# Altium schematic symbol library components.SchLib: 27 symbols
Pins are listed as number, name and electrical type; pins without a type are passive.

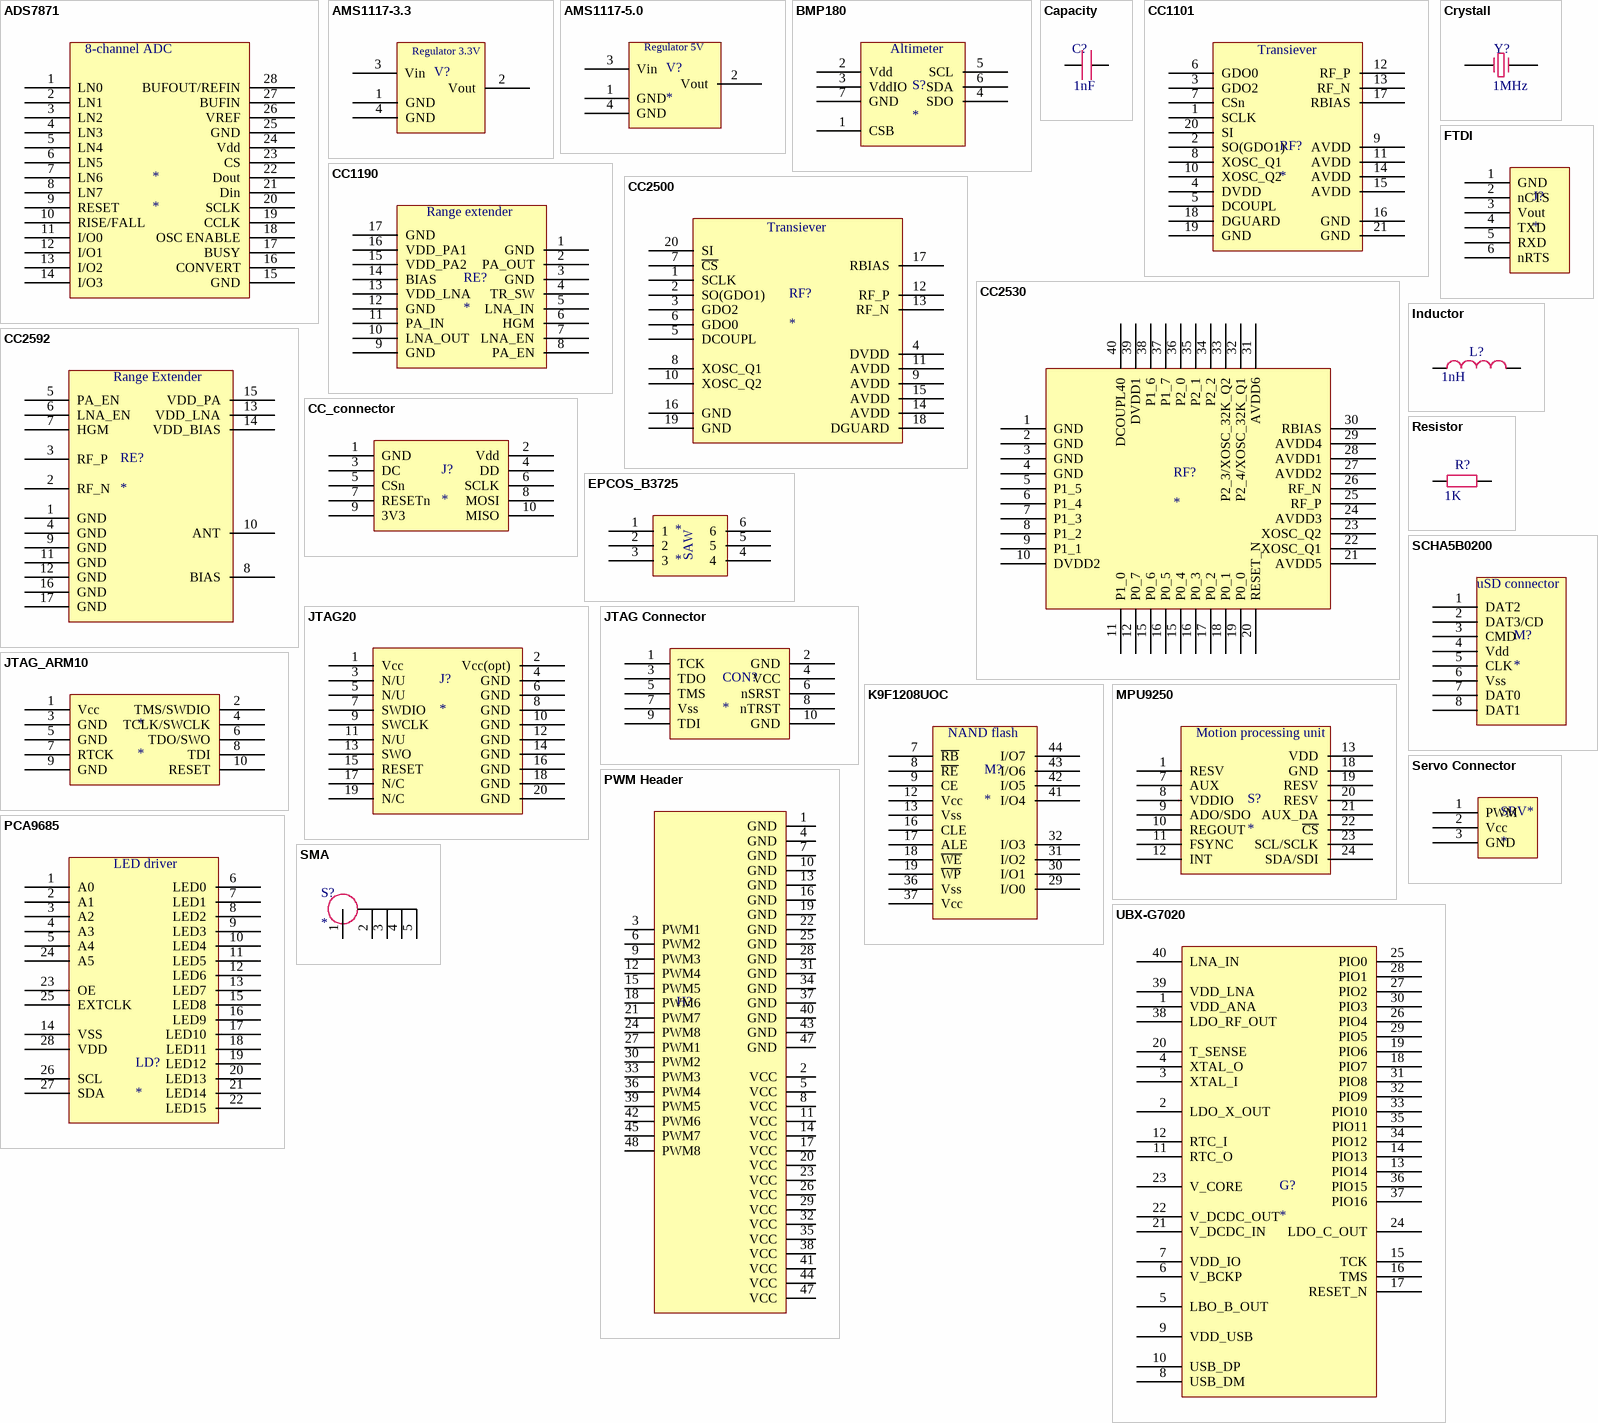
[diagram p0: symbols ADS7871 to UBX-G7020]

## ADS7871
designator *
pins: 1 LN0, 2 LN1, 3 LN2, 4 LN3, 5 LN4, 6 LN5, 7 LN6, 8 LN7, 9 RESET, 10 RISE/FALL, 11 I/O0, 12 I/O1, 13 I/O2, 14 I/O3, 15 GND, 16 CONVERT, 17 BUSY, 18 OSC ENABLE, 19 CCLK, 20 SCLK, 21 Din, 22 Dout, 23 CS, 24 Vdd, 25 GND, 26 VREF, 27 BUFIN, 28 BUFOUT/REFIN
text: 8-channel ADC

## AMS1117-3.3
designator V?  (value not drawn)
Linear Voltage Regulator 3.3V
footprint SOT-223 (SOT-223/SC-73; 4 Leads; Body 6.7 x 7.3 mm, inc. leads (LxW max))
pins: 1 GND, 2 Vout, 3 Vin, 4 GND
text: Regulator 3.3V

## AMS1117-5.0
designator V?
Linear Voltage Regulator 5V
footprint SOT-223 (SOT-223/SC-73; 4 Leads; Body 6.7 x 7.3 mm, inc. leads (LxW max))
pins: 1 GND, 2 Vout, 3 Vin, 4 GND
text: Regulator 5V

## BMP180
designator S?
Bosch Digital Pressure Sensor
footprint LGA7-1.5-3.8X3.6MM
pins: 1 CSB, 2 Vdd, 3 VddIO, 4 SDO, 5 SCL, 6 SDA, 7 GND
text: Altimeter

## Capacity
designator C?  value 1nF  (hidden comment: *)
footprint C0402
pins: 1, 2

## CC1101
designator RF?
900MHz transiever
footprint RGP20_2P4X2P4 (S-PQVFN-N20)
pins: 1 SCLK, 2 SO(GDO1), 3 GDO2, 4 DVDD, 5 DCOUPL, 6 GDO0, 7 CSn, 8 XOSC_Q1, 9 AVDD, 10 XOSC_Q2, 11 AVDD, 12 RF_P, 13 RF_N, 14 AVDD, 15 AVDD, 16 GND, 17 RBIAS, 18 DGUARD, 19 GND, 20 SI, 21 GND
text: Transiever

## CC1190
designator RE?
900MHZ range extender
footprint RGV16_2P16X2P16 (S-PQVFN-N16)
pins: 1 GND, 2 PA_OUT, 3 GND, 4 TR_SW, 5 LNA_IN, 6 HGM, 7 LNA_EN, 8 PA_EN, 9 GND, 10 LNA_OUT, 11 PA_IN, 12 GND, 13 VDD_LNA, 14 BIAS, 15 VDD_PA2, 16 VDD_PA1, 17 GND
text: Range extender

## CC2500
designator RF?
2.4GHz transiever
footprint RTK20_2P4X2P4 (S-PQVFN-N20)
pins: 1 SCLK, 2 SO(GDO1), 3 GDO2, 4 DVDD, 5 DCOUPL, 6 GDO0, 7 ~{CS}, 8 XOSC_Q1, 9 AVDD, 10 XOSC_Q2, 11 AVDD, 12 RF_P, 13 RF_N, 14 AVDD, 15 AVDD, 16 GND, 17 RBIAS, 18 DGUARD, 19 GND, 20 SI
text: Transiever

## CC2530
designator RF?
RF 2.5GHz module
footprint PQFN50P600X600X100_HS-41N (PQFN, 40-Leads, Body 6,00x6,00mm, Pitch 0,50mm, Thermal Pad 4,50x4,50mm, IPC Medium Density)
pins: 1 GND, 2 GND, 3 GND, 4 GND, 5 P1_5, 6 P1_4, 7 P1_3, 8 P1_2, 9 P1_1, 10 DVDD2, 11 P1_0, 12 P0_7, 15 P0_6, 15 P0_4, 16 P0_5, 16 P0_3, 17 P0_2, 18 P0_1, 19 P0_0, 20 RESET_N, 21 AVDD5, 22 XOSC_Q1, 23 XOSC_Q2, 24 AVDD3, 25 RF_P, 26 RF_N, 27 AVDD2, 28 AVDD1, 29 AVDD4, 30 RBIAS, 31 AVDD6, 32 P2_4/XOSC_32K_Q1, 33 P2_3/XOSC_32K_Q2, 34 P2_2, 35 P2_1, 36 P2_0, 37 P1_7, 38 P1_6, 39 DVDD1, 40 DCOUPL40

## CC2592
designator RE?
Range Extender 2.5GHz
footprint RGV16_2P16X2P16 (S-PQVFN-N16)
pins: 1 GND, 2 RF_N, 3 RF_P, 4 GND, 5 PA_EN, 6 LNA_EN, 7 HGM, 8 BIAS, 9 GND, 10 ANT, 11 GND, 12 GND, 13 VDD_LNA, 14 VDD_BIAS, 15 VDD_PA, 16 GND, 17 GND
text: Range Extender

## CC_connector
designator J?
CC Debugger TI connector
pins: 1 GND, 2 Vdd, 3 DC "Debug Clock", 4 DD "Debug Data", 5 CSn, 6 SCLK "Debug Data", 7 RESETn, 8 MOSI, 9 3V3, 10 MISO

## Crystall
designator Y?  Frequency: 1MHz  (hidden comment: *)
Epson TSX-3225 MHz Crystal
footprint OSC3225
pins: 1 OSC1, 3 OSC2

## EPCOS_B3725
designator *
Saw filter
footprint DCC6C
pins: 1, 2, 3, 4, 5, 6
text: SAW

## FTDI
designator J?
FTDI 6-pin connector
pins: 1 GND, 2 nCTS, 3 Vout, 4 TXD, 5 RXD, 6 nRTS

## Inductor
designator L?  value 1nH  (hidden comment: *)
footprint L0402 (Inductor 0402)
pins: 1, 2

## JTAG20
designator J?
SWD/JTAG 20 pin connector
footprint JTAG20
pins: 1 Vcc, 2 Vcc(opt), 3 N/U, 4 GND, 5 N/U, 6 GND, 7 SWDIO, 8 GND, 9 SWCLK, 10 GND, 11 N/U, 12 GND, 13 SWO, 14 GND, 15 RESET, 16 GND, 17 N/C, 18 GND, 19 N/C, 20 GND

## JTAG Connector
designator CON?
pins: 1 TCK, 2 GND, 3 TDO, 4 VCC, 5 TMS, 6 nSRST, 7 Vss, 8 nTRST, 9 TDI, 10 GND

## JTAG_ARM10
designator *
pins: 1 Vcc, 2 TMS/SWDIO, 3 GND, 4 TCLK/SWCLK, 5 GND, 6 TDO/SWO, 7 RTCK, 8 TDI, 9 GND, 10 RESET

## K9F1208UOC
designator M?
64x8 NAND flash; Volume: 64MB
footprint TSSOP50P2000X120-48N (TSSOP, 48-Leads, Body 12,40x18,40mm, Pitch 0,50mm, IPC Medium Density)
pins: 1 NC hidden, 2 NC hidden, 3 NC hidden, 4 NC hidden, 5 NC hidden, 6 NC hidden, 7 ~{RB}, 8 ~{RE}, 9 CE, 10 NC hidden, 11 NC hidden, 12 Vcc, 13 Vss, 14 NC hidden, 15 NC hidden, 16 CLE, 17 ALE, 18 ~{WE}, 19 ~{WP}, 20 NC hidden, 21 NC hidden, 22 NC hidden, 23 NC hidden, 24 NC hidden, 25 NC hidden, 26 NC hidden, 27 NC hidden, 28 NC hidden, 29 I/O0, 30 I/O1, 31 I/O2, 32 I/O3, 33 NC hidden, 34 NC hidden, 35 NC hidden, 36 Vss, 37 Vcc, 38 NC hidden, 39 NC hidden, 40 NC hidden, 41 I/O4, 42 I/O5, 43 I/O6, 44 I/O7, 45 NC hidden, 46 NC hidden, 47 NC hidden, 48 NC hidden
text: NAND flash

## MPU9250
designator S?
Motion processing unit sensor
footprint QFN40P300X300X100_HS-25N (QFN, 24-Leads, Body 3,00x3,00mm, Pitch 0,40mm, Thermal Pad 1,70x1,54mm, IPC Medium Density)
pins: 1 RESV, 2 NC hidden, 3 NC hidden, 4 NC hidden, 5 NC hidden, 6 NC hidden, 7 AUX, 8 VDDIO, 9 ADO/SDO, 10 REGOUT, 11 FSYNC, 12 INT, 13 VDD, 14 NC hidden, 15 NC hidden, 16 NC hidden, 17 NC hidden, 18 GND, 19 RESV, 20 RESV, 21 AUX_DA, 22 ~{CS}, 23 SCL/SCLK, 24 SDA/SDI
text: Motion processing unit

## PCA9685
designator LD?
footprint TSOP65P640X110-28N (TSOP, 28-Leads, Body 9,70x4,40mm, Pitch 0,65mm, IPC Medium Density)
pins: 1 A0 "asd", 2 A1, 3 A2, 4 A3, 5 A4, 6 LED0, 7 LED1, 8 LED2, 9 LED3, 10 LED4, 11 LED5, 12 LED6, 13 LED7, 14 VSS, 15 LED8, 16 LED9, 17 LED10, 18 LED11, 19 LED12, 20 LED13, 21 LED14, 22 LED15, 23 OE, 24 A5, 25 EXTCLK, 26 SCL, 27 SDA, 28 VDD
text: LED driver

## PWM Header
designator H?  (value not drawn)
16 channel PWM output header
footprint PWM_HEADER16
pins: 1 GND, 2 VCC, 3 PWM1, 4 GND, 5 VCC, 6 PWM2, 7 GND, 8 VCC, 9 PWM3, 10 GND, 11 VCC, 12 PWM4, 13 GND, 14 VCC, 15 PWM5, 16 GND, 17 VCC, 18 PWM6, 19 GND, 20 VCC, 21 PWM7, 22 GND, 23 VCC, 24 PWM8, 25 GND, 26 VCC, 27 PWM1, 28 GND, 29 VCC, 30 PWM2, 31 GND, 32 VCC, 33 PWM3, 34 GND, 35 VCC, 36 PWM4, 37 GND, 38 VCC, 39 PWM5, 40 GND, 41 VCC, 42 PWM6, 43 GND, 44 VCC, 45 PWM7, 47 GND, 47 VCC, 48 PWM8

## Resistor
designator R?  value 1K  (hidden comment: *)
footprint R0402
pins: 1, 2

## SCHA5B0200
designator M?
MicroSD connector
pins: 1 DAT2, 2 DAT3/CD, 3 CMD, 4 Vdd, 5 CLK, 6 Vss, 7 DAT0, 8 DAT1
text: uSD connector

## Servo Connector
designator SRV*
pins: 1 PWM, 2 Vcc, 3 GND

## SMA
designator S?
Antenna connector
footprint 19-46-2_A (SMA mount)
pins: 1, 2, 3, 4, 5

## UBX-G7020
designator G?
GPS
pins: 1 VDD_ANA, 2 LDO_X_OUT, 3 XTAL_I, 4 XTAL_O, 5 LBO_B_OUT, 6 V_BCKP, 7 VDD_IO, 8 USB_DM, 9 VDD_USB, 10 USB_DP, 11 RTC_O, 12 RTC_I, 13 PIO14, 14 PIO13, 15 TCK, 16 TMS, 17 RESET_N, 18 PIO7, 19 PIO6, 20 T_SENSE, 21 V_DCDC_IN, 22 V_DCDC_OUT, 23 V_CORE, 24 LDO_C_OUT, 25 PIO0, 26 PIO4, 27 PIO2, 28 PIO1, 29 PIO5, 30 PIO3, 31 PIO8, 32 PIO9, 33 PIO10, 34 PIO12, 35 PIO11, 36 PIO15, 37 PIO16, 38 LDO_RF_OUT, 39 VDD_LNA, 40 LNA_IN